# EAGLE library part CMX902 (library CMX901)
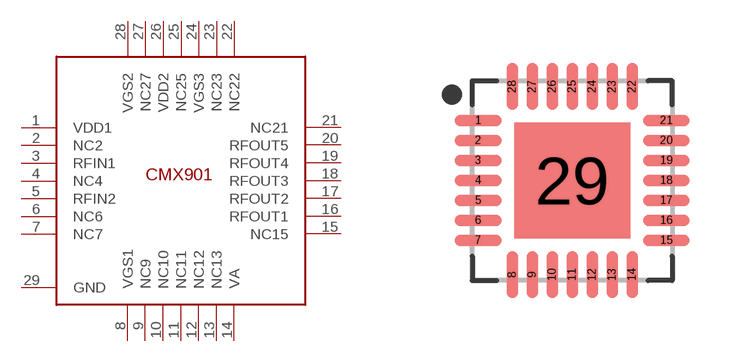
[diagram p1: symbol with the pads of QFN50P495X495X85-29T290; footprint QFN50P495X495X85-29T290]

Designator prefix -

## CMX902  [QFN50P495X495X85-29T290]
1  VDD1
2  NC2
3  RFIN1
4  NC4
5  RFIN2
6  NC6
7  NC7
8  VGS1
9  NC9
10  NC10
11  NC11
12  NC12
13  NC13
14  VA
15  NC15
16  RFOUT1
17  RFOUT2
18  RFOUT3
19  RFOUT4
20  RFOUT5
21  NC21
22  NC22
23  NC23
24  VGS3
25  NC25
26  VDD2
27  NC27
28  VGS2
29  GND

## Footprint QFN50P495X495X85-29T290 (pad centres in mm)
28-QFN, 0.50 mm pitch, 4.95 X 4.95 X 0.85 mm body, 2.90 X 2.90 mm thermal pad 28-pin QFN package with 0.50 mm pitch with body size 4.95 X 4.95 X 0.85 mm and thermal pad size 2.90 X 2.90 mm
smd 1.164 x 0.285: 1 -2.355,1.5; 2 -2.355,1; 3 -2.355,0.5; 4 -2.355,0; 5 -2.355,-0.5; 6 -2.355,-1; 7 -2.355,-1.5; 15 2.355,-1.5; 16 2.355,-1; 17 2.355,-0.5; 18 2.355,0; 19 2.355,0.5; 20 2.355,1; 21 2.355,1.5
smd 0.285 x 1.164: 8 -1.5,-2.355; 9 -1,-2.355; 10 -0.5,-2.355; 11 0,-2.355; 12 0.5,-2.355; 13 1,-2.355; 14 1.5,-2.355; 22 1.5,2.355; 23 1,2.355; 24 0.5,2.355; 25 0,2.355; 26 -0.5,2.355; 27 -1,2.355; 28 -1.5,2.355
smd 2.9 x 2.9: 29 0,0